# Altium footprint library PASSIVE_SMD.PCBLIB: 238 footprints (part 12 of 15)
Each footprint in its own frame and in the unit in brackets; x right, y up, seen from the top. Pads: shape width x height; smd on the part's side, far side on the other; paste and mask are expansions set on the pad; w line width, h text height; cw(c..) or ccw(c..) is an arc to the next point about the centre after c.
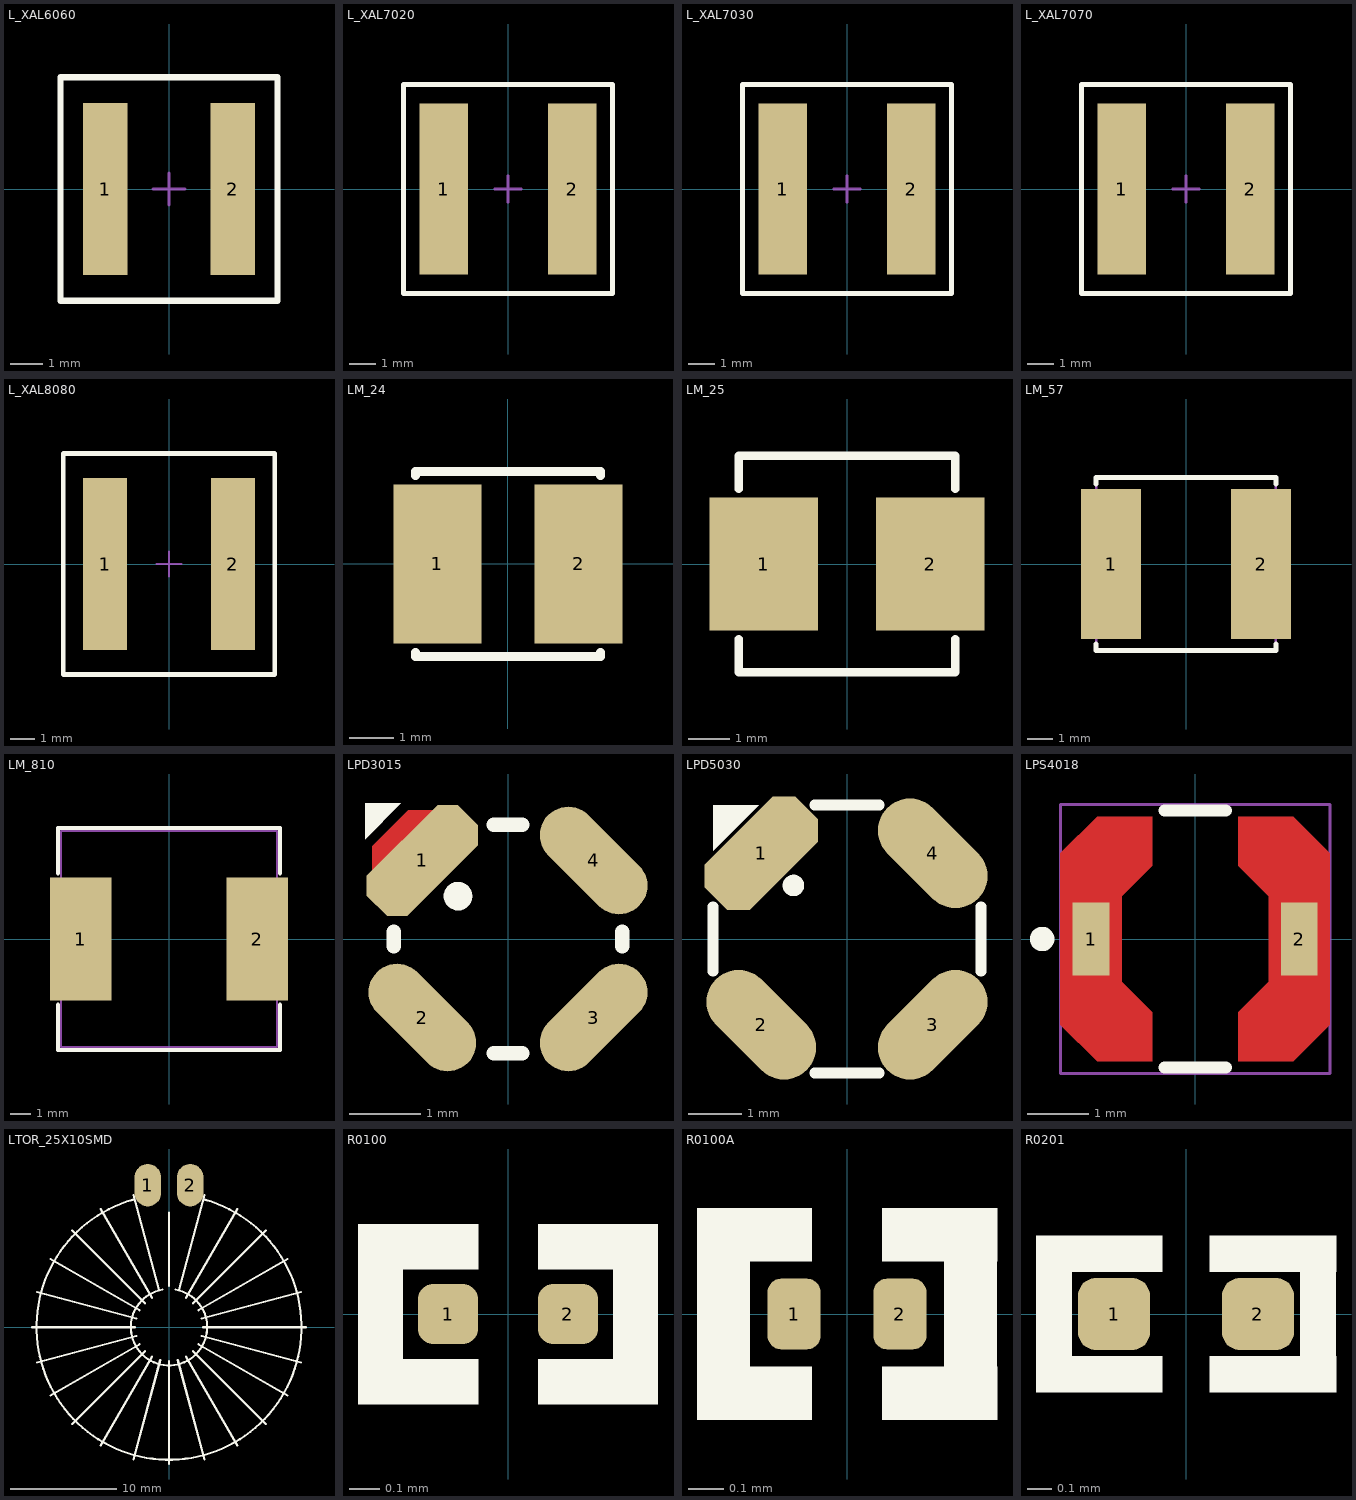
[diagram p11: the footprints below, top view; thin cyan lines are the x and y axes]

## L_XAL6060 [mm] "Inductor, XAL6060, 6.36x6.56x6.1mm"
height 6.1
pads (2):
  rect 1.4x5.4 smd paste-4: 1(-2,0) 2(2,0)
Top Overlay:
  lines w0.2: -3.4,-3.5 -3.4,3.5 3.4,3.5 3.4,-3.5 -3.4,-3.5
Top Paste:
  rectangle: -2.6,-2.6 -1.4,-0.2
  rectangle: -2.6,0.2 -1.4,2.6
  region: 2.6,-0.2 1.4,-0.2 1.4,-2.6 2.6,-2.6
  region: 2.6,2.6 1.4,2.6 1.4,0.2 2.6,0.2
Mechanical 13:
  lines w0.1: -0.5,0 0.5,0 ; 0,-0.5 0,0.5
3D body "Coilcraft-XAL6060.step": height 6.1, standoff 0, extent -3.28,-3.38 3.28,3.38

## L_XAL7020 [mm] "Inductor, XAL7020, 7.5x7.5x2.1mm"
height 2.1
pads (2):
  rect 1.8x6.4 smd paste-4: 1(-2.4,0) 2(2.4,0)
Top Overlay:
  lines w0.2: -3.9,-3.9 3.9,-3.9 3.9,3.9 -3.9,3.9 -3.9,-3.9
Top Paste:
  rectangle: -3.2,0.2 -1.6,3
  rectangle: -3.2,-3 -1.6,-0.2
  region: 3.2,-0.2 1.6,-0.2 1.6,-3 3.2,-3
  region: 3.2,3 1.6,3 1.6,0.2 3.2,0.2
Mechanical 13:
  lines w0.1: -0.5,0 0.5,0 ; 0,-0.5 0,0.5
3D body "Coilcraft-XAL7020-331.step": height 2, standoff 0, extent -4,-4 4,4

## L_XAL7030 [mm] "Inductor, XAL7030, 7.5x7.5x3.1mm"
height 3.1
pads (2):
  rect 1.8x6.4 smd paste-4: 1(-2.4,0) 2(2.4,0)
Top Overlay:
  lines w0.2: -3.9,-3.9 -3.9,3.9 3.9,3.9 3.9,-3.9 -3.9,-3.9
Top Paste:
  rectangle: -3.2,-3 -1.6,-0.2
  rectangle: -3.2,0.2 -1.6,3
  region: 3.2,-0.2 1.6,-0.2 1.6,-3 3.2,-3
  region: 3.2,3 1.6,3 1.6,0.2 3.2,0.2
Mechanical 13:
  lines w0.1: -0.5,0 0.5,0 ; 0,-0.5 0,0.5
3D body "Coilcraft-XAL7030-472.step": height 3.1, standoff 0, extent -4,-4 4,4

## L_XAL7070 [mm] "Inductor, XAL7070, 7.5x7.5x7.0mm"
height 7
pads (2):
  rect 1.8x6.4 smd paste-4: 1(-2.4,0) 2(2.4,0)
Top Overlay:
  lines w0.2: -3.9,-3.9 3.9,-3.9 3.9,3.9 -3.9,3.9 -3.9,-3.9
Top Paste:
  rectangle: -3.2,-3 -1.6,-0.2
  rectangle: -3.2,0.2 -1.6,3
  region: 3.2,-0.2 1.6,-0.2 1.6,-3 3.2,-3
  region: 3.2,3 1.6,3 1.6,0.2 3.2,0.2
Mechanical 13:
  lines w0.1: -0.5,0 0.5,0 ; 0,-0.5 0,0.5
3D body "Coilcraft-XAL7070.step": height 7, standoff 0, extent -3.85,-4 3.85,4

## L_XAL8080 [mm] "Inductor, XAL8080, 8.1x8.6x8mm"
height 8
pads (2):
  rect 1.8x7 smd paste-4: 1(-2.6,0) 2(2.6,0)
Top Overlay:
  lines w0.2: -4.3,-4.5 4.3,-4.5 4.3,4.5 -4.3,4.5 -4.3,-4.5
Top Paste:
  region: 3.4,3.3 1.8,3.3 1.8,0.2 3.4,0.2
  region: 3.4,-0.2 1.8,-0.2 1.8,-3.3 3.4,-3.3
  rectangle: -3.4,-3.3 -1.8,-0.2
  rectangle: -3.4,0.2 -1.8,3.3
Mechanical 13:
  lines w0.1: -0.5,0 0.5,0 ; 0,-0.5 0,0.5
3D body "Coilcraft-XAL8080.step": height 8, standoff 0, extent -4.15,-4.4 4.15,4.4

## LM_24 [mm] "INDUCTOR, multi size, from 2x2 to 4x4mm"
height 2.5
pads (2):
  rect 2x3.6 smd: 1(-1.6,0) 2(1.6,0)
Top Overlay:
  lines w0.2: -2.1,-2 -2.1,-2.1 2.1,-2.1 2.1,-2 ; -2.1,2 -2.1,2.1 2.1,2.1 2.1,2
3D body: height 3, standoff 0, extent -2,-2 2,2

## LM_25 [mm] "INDUCTOR, multi size, FROM 2X2 TO 5X5mm"
pads (2):
  rect 2.6x3.2 smd: 1(-2,0) 2(2,0)
Top Overlay:
  lines w0.2: -2.6,-1.8 -2.6,-2.6 2.6,-2.6 2.6,-1.8 ; -2.6,1.8 -2.6,2.6 2.6,2.6 2.6,1.8
3D body: height 3, standoff 0, extent -2.5,-2.5 2.5,2.5

## LM_57 [mm] "INDUCTOR, multi size, from 5x5 to 7x7"
height 4.5
pads (2):
  rect 2.4x6 smd: 1(-3,0) 2(3,0)
Top Overlay:
  lines w0.2: -3.6,-3.2 -3.6,-3.45 3.6,-3.45 3.6,-3.2 ; -3.6,3.2 -3.6,3.45 3.6,3.45 3.6,3.2
Mechanical 13:
  lines w0.1: -3.6,-3.45 3.6,-3.45 3.6,3.45 -3.6,3.45 -3.6,-3.45
3D body "User Library-FP3-Cooper.step": height 3, standoff 0, extent -3.625,-3.35 3.625,3.35

## LM_810 [mm] "INDUCTOR, multi size, FROM 8X8 TO 10X10"
height 4
pads (2):
  rect 3x6 smd: 1(-4.3,0) 2(4.3,0)
Top Overlay:
  lines w0.2: -5.4,-3.2 -5.4,-5.4 5.4,-5.4 5.4,-3.2 ; -5.4,3.2 -5.4,5.4 5.4,5.4 5.4,3.2
Mechanical 13:
  lines w0.1: -5.25,-5.25 5.25,-5.25 5.25,5.25 -5.25,5.25 -5.25,-5.25
3D body "User Library-10x10 SMT Power Inductor.step": height 4.8, standoff 0, extent -5.2,-5.2 5.2,5.2

## LPD3015 [mm] "INDUCTOR, coupled, 3X3X1.5mm"
height 1.4
pads (4):
  oct 0.8x1.8 smd rot 135: 1(-1.2,1.1)
  oval 0.8x1.8 smd rot 45: 2(-1.2,-1.1) 4(1.2,1.1)
  oval 0.8x1.8 smd rot 135: 3(1.2,-1.1)
Top Layer:
  region: -0.9,1.8 -1.4,1.8 -1.9,1.3 -1.9,0.8
Top Overlay:
  circle w0.2: c-0.7,0.6 r0.1
  region: -2,1.4 -2,1.9 -1.5,1.9
  lines w0.2: -1.6,-0.1 -1.6,0.1 ; -0.2,-1.6 0.2,-1.6 ; -0.2,1.6 0.2,1.6 ; 1.6,-0.1 1.6,0.1
3D body "Coilcraft-LPD3015.step": height 1.5, standoff 0, extent -1.54,-1.54 1.54,1.54

## LPD5030 [mm] "INDUCTOR, coupled, 5X5X3mm"
height 3
pads (4):
  oct 1.2x2.4 smd rot 135: 1(-1.6,1.6)
  oval 1.2x2.4 smd rot 45: 2(-1.6,-1.6) 4(1.6,1.6)
  oval 1.2x2.4 smd rot 135: 3(1.6,-1.6)
Top Overlay:
  circle w0.2: c-1,1 r0.1
  region: -2.5,1.65 -2.5,2.5 -1.65,2.5
  lines w0.2: -2.5,-0.6 -2.5,0.6 ; -0.6,-2.5 0.6,-2.5 ; -0.6,2.5 0.6,2.5 ; 2.5,-0.6 2.5,0.6
3D body "Coilcraft-LPD5030.step": height 2.98, standoff 0, extent -2.44,-2.44 2.44,2.44

## LPS4018 [mm] "INDUCTOR, 4X4X1.8mm"
height 1.8
pads (2):
  rect 0.6x1.2 smd paste-2 mask+0: 1(-1.7,0) 2(1.7,0)
Top Layer:
  region: 1.2,-0.7 1.2,0.7 0.7,1.2 0.7,2 1.6,2 2.2,1.4 2.2,-1.4 1.6,-2 0.7,-2 0.7,-1.2
  region: -1.2,-0.7 -1.2,0.7 -0.7,1.2 -0.7,2 -1.6,2 -2.2,1.4 -2.2,-1.4 -1.6,-2 -0.7,-2 -0.7,-1.2
Top Overlay:
  circle w0.2: c-2.5,0 r0.1
  lines w0.2: -0.5,-2.1 0.5,-2.1 ; -0.5,2.1 0.5,2.1
Top Paste:
  region: 2.1,0.7 1.3,0.7 1.3,-0.7 2.1,-0.7
  rectangle: -2.1,-0.7 -1.3,0.7
  region: 1.1,1.1 2,1.1 2,1.4 1.6,1.8 0.9,1.8 0.9,1.3
  region: 1.1,-1.1 2,-1.1 2,-1.4 1.6,-1.8 0.9,-1.8 0.9,-1.3
  region: -1.1,-1.1 -2,-1.1 -2,-1.4 -1.6,-1.8 -0.9,-1.8 -0.9,-1.3
  region: -1.1,1.1 -2,1.1 -2,1.4 -1.6,1.8 -0.9,1.8 -0.9,1.3
Mechanical 15:
  lines w0.05: -2.2,-2.2 2.2,-2.2 2.2,2.2 -2.2,2.2 -2.2,-2.2
3D body "Coilcraft-LPS4018.step": height 1.8, standoff 0, extent -1.99,-1.99 1.99,1.99

## LTOR_25X10SMD [mm] "INDUCTOR, TORIOD, 25.0X10.0mm BENDED"
pads (2):
  oval 2.5x4 smd: 1(-2,13.4) 2(2,13.4)
Top Overlay:
  lines w0.2: -12.9,0 -3.2,0 ; -12.46,-3.339 -3.091,-0.828 ; -12.46,3.339 -3.091,0.828 ; -11.172,-6.45 -2.771,-1.6 ; -11.172,6.45 -2.771,1.6 ; -9.122,-9.122 -2.263,-2.263 ; -9.122,9.122 -2.263,2.263 ; -6.45,-11.172 -1.6,-2.771 ; -6.45,11.172 -1.6,2.771 ; -3.408,12.027 ccw(c0,0) 3.408,12.027 ; -3.339,-12.46 -0.828,-3.091 ; -3.339,12.46 -0.942,3.516 ; -0.625,3.545 ccw(c0,0) 0.625,3.545 ; 0,-12.9 0,-3.2 ; 0,3.9 0,10.8 ; 0.828,-3.091 3.339,-12.46 ; 0.942,3.516 3.339,12.46 ; 1.6,-2.771 6.45,-11.172 ; 1.6,2.771 6.45,11.172 ; 2.263,-2.263 9.122,-9.122 ; 2.263,2.263 9.122,9.122 ; 2.771,-1.6 11.172,-6.45 ; 2.771,1.6 11.172,6.45 ; 3.091,-0.828 12.46,-3.339 ; 3.091,0.828 12.46,3.339 ; 3.2,0 12.9,0
3D body "User Library-5701-RC.STEP": height 11.26, standoff -0.06, extent -11.21,-11.235 11.21,23.8

## R0100 [mm] "CHIP Resistor, 0.4x0.2mm, 0100"
pads (2):
  rrect50% 0.2x0.2 smd mask+0.05: 1(-0.2,0) 2(0.2,0)
Top Overlay:
  region: 0.5,0.15 0.1,0.15 0.1,0.3 0.5,0.3
  region: 0.5,-0.15 0.1,-0.15 0.1,-0.3 0.5,-0.3
  region: -0.5,-0.15 -0.1,-0.15 -0.1,-0.3 -0.5,-0.3
  region: -0.5,0.15 -0.1,0.15 -0.1,0.3 -0.5,0.3
  lines w0.15: -0.425,-0.225 -0.425,0.225 ; 0.425,-0.225 0.425,0.225
3D body: height 0.13, standoff 0, extent 0.1,-0.1 0.2,0.1
3D body: height 0.13, standoff 0, extent -0.1,-0.1 0.1,0.1
3D body: height 0.13, standoff 0, extent -0.2,-0.1 -0.1,0.1

## R0100A [mm] "CHIP Resistor, 0.4x0.2mm, for PCBA"
height 0.13
pads (2):
  rrect50% 0.15x0.2 smd mask+0.05: 1(-0.15,0) 2(0.15,0)
Top Overlay:
  region: 0.425,-0.15 0.1,-0.15 0.1,-0.3 0.425,-0.3
  region: 0.425,0.15 0.1,0.15 0.1,0.3 0.425,0.3
  region: -0.425,0.15 -0.1,0.15 -0.1,0.3 -0.425,0.3
  region: -0.425,-0.15 -0.1,-0.15 -0.1,-0.3 -0.425,-0.3
  lines w0.15: -0.35,-0.225 -0.35,0.225 ; 0.35,-0.225 0.35,0.225
3D body: height 0.13, standoff 0, extent -0.2,-0.1 -0.1,0.1
3D body: height 0.13, standoff 0, extent -0.1,-0.1 0.1,0.1
3D body: height 0.13, standoff 0, extent 0.1,-0.1 0.2,0.1

## R0201 [mm] "CHIP Resistor, 0.5x0.25mm, 0201"
pads (2):
  rrect50% 0.3x0.3 smd mask+0.05: 1(-0.3,0) 2(0.3,0)
Top Overlay:
  region: -0.625,0.175 -0.1,0.175 -0.1,0.325 -0.625,0.325
  region: 0.625,0.175 0.1,0.175 0.1,0.325 0.625,0.325
  region: 0.625,-0.175 0.1,-0.175 0.1,-0.325 0.625,-0.325
  region: -0.625,-0.175 -0.1,-0.175 -0.1,-0.325 -0.625,-0.325
  lines w0.15: -0.55,-0.25 -0.55,0.25 ; 0.55,-0.25 0.55,0.25
3D body "r0201_Res.step": height 0.31, standoff 0, extent -0.44,-0.15 0.44,0.15